# Altium footprint library RF Connectors.PcbLib: 3 footprints
Each footprint in its own frame and in the unit in brackets; x right, y up, seen from the top. Pads: shape width x height; smd on the part's side, far side on the other; paste and mask are expansions set on the pad; w line width, h text height; cw(c..) or ccw(c..) is an arc to the next point about the centre after c.
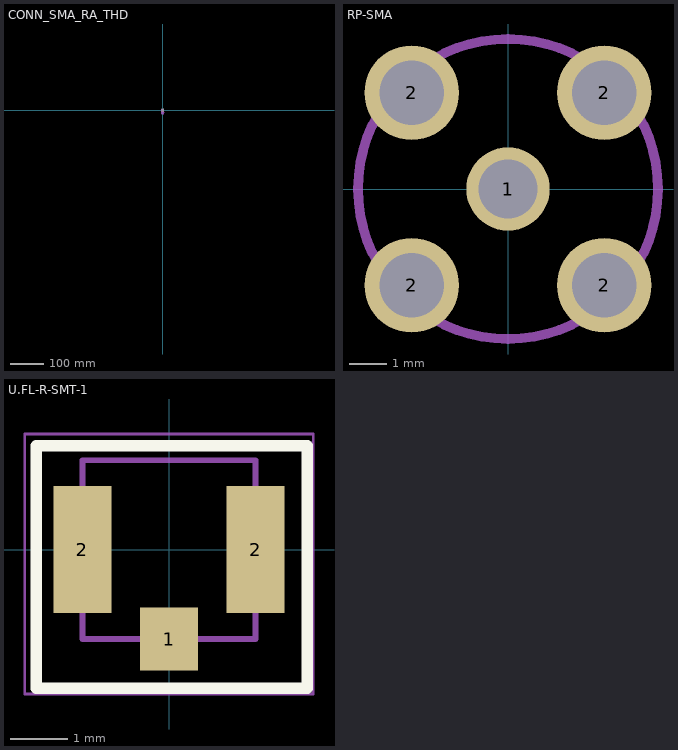
[diagram p0: the footprints below, top view; thin cyan lines are the x and y axes]

## CONN_SMA_RA_THD [mm]
height 10.43
pads (5):
  round 2.5 hole 1.5: 1(0,0)
  round 2.5 hole 1.6: 2(-2.54,-2.54) 2(-2.54,2.54) 2(2.54,-2.54) 2(2.54,2.54)
Mechanical 13:
  drawing of 402 lines, arcs and shapes, not listed
3D body "SMA Conn TE 5-1814400-1.STEP": height 10.43, standoff -3.41, extent -3.173,-11.05 3.167,3.15

## RP-SMA [mm]
pads (5):
  round 2.2 hole 1.57: 1(0,0)
  round 2.5 hole 1.7: 2(-2.54,-2.54) 2(-2.54,2.54) 2(2.54,-2.54) 2(2.54,2.54)
Mechanical 1:
  circle w0.254: c0,0 r3.96
3D body "SMA_132134_Corrected.STEP": height 8.74, standoff 0, extent -3.175,-3.175 3.175,3.175

## U.FL-R-SMT-1 [mm]
pads (3):
  rect 1x1.1 smd: 1(0,-1.55)
  rect 1x2.2 smd: 2(-1.5,0) 2(1.5,0)
Top Overlay:
  lines w0.2: -2.3,-2.4 2.4,-2.4 2.4,1.8 -2.3,1.8 -2.3,-2.4
Mechanical 13:
  lines w0.1: -1.5,-1.55 1.5,-1.55 1.5,1.55 -1.5,1.55 -1.5,-1.55
Mechanical 15:
  lines w0.05: -2.5,-2.5 2.5,-2.5 2.5,2 -2.5,2 -2.5,-2.5
3D body "User Library-U_FL-R-SMT-1.step": height 1.25, standoff -0.01, extent -1.5,-1.55 1.5,1.55